# EAGLE library part YSWITCH (library MiiLib)
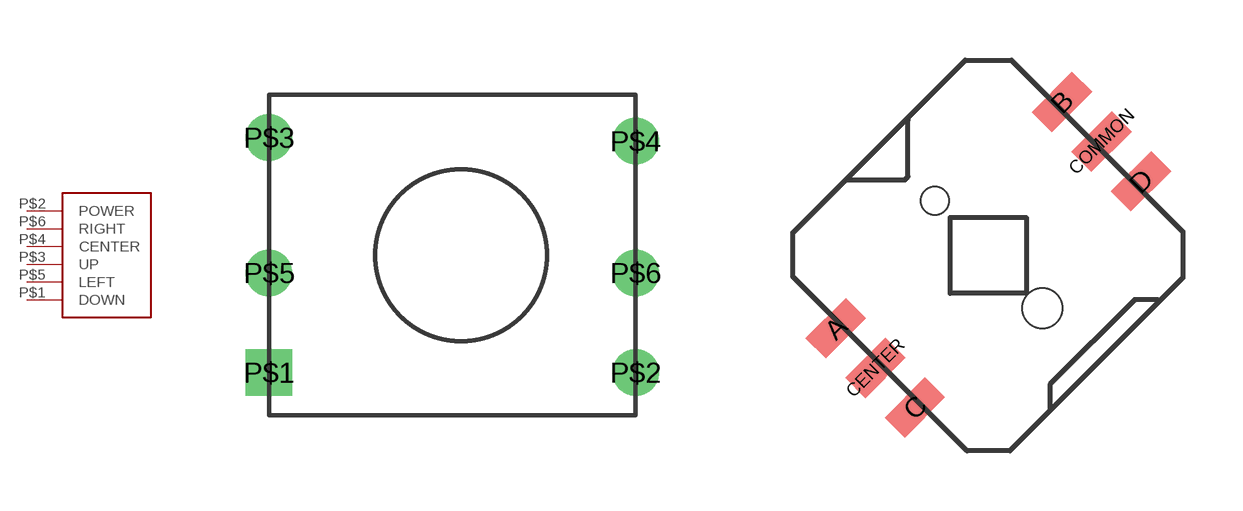
[diagram p1: symbol with the pads of YSWITCH; footprints YSWITCH, YSWITCH-SMD]

Designator prefix -

## YSWITCH  [YSWITCH]
P$1  DOWN
P$2  POWER
P$3  UP
P$4  CENTER
P$5  LEFT
P$6  RIGHT

## YSWITCHYSWITCH=SMD  [YSWITCH-SMD]
A  LEFT
B  UP
C  DOWN
CENTER  CENTER
COMMON  POWER
D  RIGHT

## Footprint YSWITCH (pad centres in mm)
drill 0.8 square: P$1 0,0
drill 0.8: P$2 10.3,0; P$3 0,6.6; P$4 10.3,6.5; P$5 0,2.8; P$6 10.3,2.8

## Footprint YSWITCH-SMD (pad centres in mm)
This is the Yswitch from http://dx.com/p/mt-008a-multi-function-switches-10-piece-pack-122745 or MT-008A Multi-Function Switches
smd 1.422 x 0.711 rotated 45: A -3.818,-1.838; B 1.838,3.818; C -1.838,-3.818; CENTER -2.828,-2.828; COMMON 2.828,2.828; D 3.818,1.838
hole 0.7 at -1.343,1.343
hole 1 at 1.343,-1.343